# Altium integrated library TSW-114-07-G-S.IntLib: 1 symbol
Pins are listed as number, name and electrical type; pins without a type are passive.

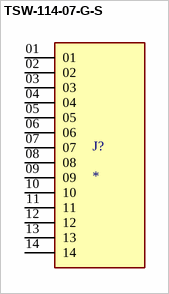
[diagram p0: symbol TSW-114-07-G-S]

## TSW-114-07-G-S
designator J?
MF: Samtec Inc.; MP: TSW-114-07-G-S; Value: *; Availability: Unavailable; Price: None; Package: None
footprint SAMTEC_TSW-114-07-G-S
pins: 01, 02, 03, 04, 05, 06, 07, 08, 09, 10, 11, 12, 13, 14